# Altium integrated library Linear Technology Power Management uModule Regulators.IntLib: 166 symbols (part 25 of 67)
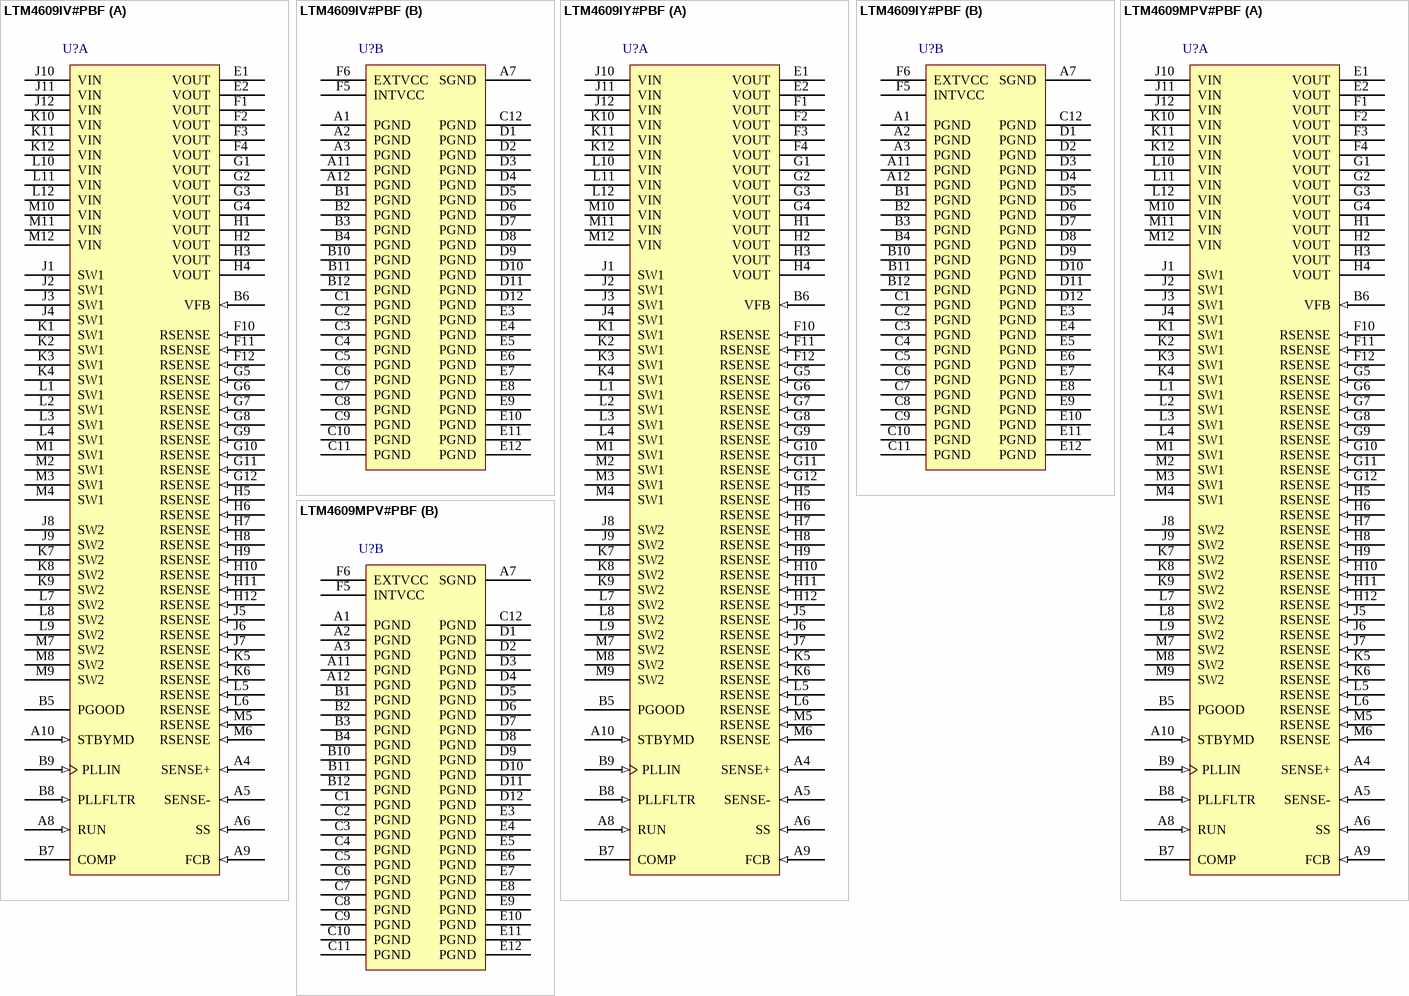
[diagram p51: symbols LTM4609IV#PBF to LTM4609MPV#PBF]

## LTM4609MPV#PBF
designator U?
36 VIN, 34 VOUT High Efficiency Buck-Boost DC/DC uModule Regulator, 141-pin LGA, -55 to 125 degC, Pb-Free, Tray; Manufacturer: Linear Technology; PartNumber: LTM4609MPV#PBF; Extended Temp: E, I, MP; Frequency Sync Range: 200kHz - 400kHz; Frequency(kHz): 300; Ishutdown(uA): 35; Isupply(mA): 2.8; Number of Outputs: 1; Output Current(A): 4; Synchronous: yes; Tracking: no; Vin Max(V): 36; Vin Min(V): 4.5; Vout Max(V): 34; Vout Min(V): 0.8; DatasheetVersion: Rev. D; PackageVersion: Rev. B, 02/2013; PackageReference: LGA-141; PackageDescription: 141-Pin LGA, Body 15 x 15 mm, Pitch 1.27 mm; Supplier 1: Digi-Key; Supplier Part Number 1: LTM4609MPV#PBF-ND; Supplier 2: Farnell; Supplier Part Number 2: 1847465; Supplier 3: Farnell; Supplier Part Number 3: 1838293; Supplier 4: Newark; Supplier Part Number 4: 84R5008; Packing: Tray; RoHS: TRUE; Topology: Buck-Boost; Mounting Technology: Surface Mount; Code_JEDEC: MS-028; ComponentLink1Description: Manufacturer URL; ComponentLink1URL: http://www.linear.com/; ComponentLink2Description: Datasheet; ComponentLink2URL: http://cds.linear.com/docs/en/datasheet/4609fd.pdf; ComponentLink3Description: Package Specification; ComponentLink3URL: http://cds.linear.com/docs/en/packaging/05081840_B_lga141.pdf
footprint LT-LGA-141-05-08-1840_V (LGA, 141-Leads, Body 15x15mm, Pitch 1.27mm)
part A pins: A4 SENSE+ (in) "Positive Input to the Current Sense and Reverse Current Detect Comparators.", A5 SENSE- (in) "Negative Input to the Current Sense and Reverse Current Detect Comparators.", A6 SS (in) "Soft-Start Pin. Soft-start reduces the input surge current from the power source by gradually increasing the controller’s current limit.", A8 RUN (in) "Run Control Pin. A voltage below 1.6V will turn off the module. There is a 100k resistor between the RUN pin and SGND in the module. Do not apply more than 6V to this pin. See the Applications Information section.", A9 FCB (in) "Forced Continuous Control Input. The voltage applied to this pin sets the operating mode of the module. When the applied voltage is less than 0.8V, the forced continuous current mode is active in boost operation and the skip (See Datasheet)", A10 STBYMD (in) "LDO Control Pin. Determines whether the internal LDO remains active when the controller is shut down. See Operations section for details. If the STBYMD pin is pulled to ground, the SS pin is internally pulled to ground to (See Datasheet)", B5 PGOOD (oc) "Output Voltage Power Good Indicator. Open drain logic output that is pulled to ground when the output voltage is not within +/-7.5% of the regulation point.", B6 VFB (in) "The Negative Input of the Error Amplifier. Internally, this pin is connected to VOUT with a 100k precision resistor. Different output voltages can be programmed with an additional resistor between VFB and SGND pins. See the (See Datasheet)", B7 COMP "Current Control Threshold and Error Amplifier Compensation Point. The current comparator threshold increases with this control voltage. The voltage ranges from 0V to 2.4V.", B8 PLLFLTR (in) "The lowpass filter of the phase-locked loop is tied to this pin. This pin can also be used to set the frequency of the internal oscillator with an AC or DC voltage. See the Applications Information section for details.", B9 PLLIN (in) "External Clock Synchronization Input to the Phase Detector. This pin is internally terminated to SGND with a 50k resistor. The phase-locked loop will force the rising bottom gate signal of the controller to be synchronized (See Datasheet)", E1 VOUT (power) "Power Output Pins. Apply output load between these pins and PGND pins. Recommend placing output decoupling capacitance directly between these pins and PGND pins.", E2 VOUT (power) "Power Output Pins. Apply output load between these pins and PGND pins. Recommend placing output decoupling capacitance directly between these pins and PGND pins.", F1 VOUT (power) "Power Output Pins. Apply output load between these pins and PGND pins. Recommend placing output decoupling capacitance directly between these pins and PGND pins.", F2 VOUT (power) "Power Output Pins. Apply output load between these pins and PGND pins. Recommend placing output decoupling capacitance directly between these pins and PGND pins.", F3 VOUT (power) "Power Output Pins. Apply output load between these pins and PGND pins. Recommend placing output decoupling capacitance directly between these pins and PGND pins.", F4 VOUT (power) "Power Output Pins. Apply output load between these pins and PGND pins. Recommend placing output decoupling capacitance directly between these pins and PGND pins.", F10 RSENSE (in) "Sensing Resistor Pin. The sensing resistor is connected from this pin to PGND.", F11 RSENSE (in) "Sensing Resistor Pin. The sensing resistor is connected from this pin to PGND.", F12 RSENSE (in) "Sensing Resistor Pin. The sensing resistor is connected from this pin to PGND.", G1 VOUT (power) "Power Output Pins. Apply output load between these pins and PGND pins. Recommend placing output decoupling capacitance directly between these pins and PGND pins.", G2 VOUT (power) "Power Output Pins. Apply output load between these pins and PGND pins. Recommend placing output decoupling capacitance directly between these pins and PGND pins.", G3 VOUT (power) "Power Output Pins. Apply output load between these pins and PGND pins. Recommend placing output decoupling capacitance directly between these pins and PGND pins.", G4 VOUT (power) "Power Output Pins. Apply output load between these pins and PGND pins. Recommend placing output decoupling capacitance directly between these pins and PGND pins.", G5 RSENSE (in) "Sensing Resistor Pin. The sensing resistor is connected from this pin to PGND.", G6 RSENSE (in) "Sensing Resistor Pin. The sensing resistor is connected from this pin to PGND.", G7 RSENSE (in) "Sensing Resistor Pin. The sensing resistor is connected from this pin to PGND.", G8 RSENSE (in) "Sensing Resistor Pin. The sensing resistor is connected from this pin to PGND.", G9 RSENSE (in) "Sensing Resistor Pin. The sensing resistor is connected from this pin to PGND.", G10 RSENSE (in) "Sensing Resistor Pin. The sensing resistor is connected from this pin to PGND.", G11 RSENSE (in) "Sensing Resistor Pin. The sensing resistor is connected from this pin to PGND.", G12 RSENSE (in) "Sensing Resistor Pin. The sensing resistor is connected from this pin to PGND.", H1 VOUT (power) "Power Output Pins. Apply output load between these pins and PGND pins. Recommend placing output decoupling capacitance directly between these pins and PGND pins.", H2 VOUT (power) "Power Output Pins. Apply output load between these pins and PGND pins. Recommend placing output decoupling capacitance directly between these pins and PGND pins.", H3 VOUT (power) "Power Output Pins. Apply output load between these pins and PGND pins. Recommend placing output decoupling capacitance directly between these pins and PGND pins.", H4 VOUT (power) "Power Output Pins. Apply output load between these pins and PGND pins. Recommend placing output decoupling capacitance directly between these pins and PGND pins.", H5 RSENSE (in) "Sensing Resistor Pin. The sensing resistor is connected from this pin to PGND.", H6 RSENSE (in) "Sensing Resistor Pin. The sensing resistor is connected from this pin to PGND.", H7 RSENSE (in) "Sensing Resistor Pin. The sensing resistor is connected from this pin to PGND.", H8 RSENSE (in) "Sensing Resistor Pin. The sensing resistor is connected from this pin to PGND.", H9 RSENSE (in) "Sensing Resistor Pin. The sensing resistor is connected from this pin to PGND.", H10 RSENSE (in) "Sensing Resistor Pin. The sensing resistor is connected from this pin to PGND.", H11 RSENSE (in) "Sensing Resistor Pin. The sensing resistor is connected from this pin to PGND.", H12 RSENSE (in) "Sensing Resistor Pin. The sensing resistor is connected from this pin to PGND.", J1 SW1 "Switch Nodes. The power inductor is connected between SW1 and SW2.", J2 SW1 "Switch Nodes. The power inductor is connected between SW1 and SW2.", J3 SW1 "Switch Nodes. The power inductor is connected between SW1 and SW2.", J4 SW1 "Switch Nodes. The power inductor is connected between SW1 and SW2.", J5 RSENSE (in) "Sensing Resistor Pin. The sensing resistor is connected from this pin to PGND.", J6 RSENSE (in) "Sensing Resistor Pin. The sensing resistor is connected from this pin to PGND.", J7 RSENSE (in) "Sensing Resistor Pin. The sensing resistor is connected from this pin to PGND.", J8 SW2 "Switch Nodes. The power inductor is connected between SW1 and SW2.", J9 SW2 "Switch Nodes. The power inductor is connected between SW1 and SW2.", J10 VIN (power) "Power Input Pins. Apply input voltage between these pins and PGND pins. Recommend placing input decoupling capacitance directly between VIN pins and PGND pins.", J11 VIN (power) "Power Input Pins. Apply input voltage between these pins and PGND pins. Recommend placing input decoupling capacitance directly between VIN pins and PGND pins.", J12 VIN (power) "Power Input Pins. Apply input voltage between these pins and PGND pins. Recommend placing input decoupling capacitance directly between VIN pins and PGND pins.", K1 SW1 "Switch Nodes. The power inductor is connected between SW1 and SW2.", K2 SW1 "Switch Nodes. The power inductor is connected between SW1 and SW2.", K3 SW1 "Switch Nodes. The power inductor is connected between SW1 and SW2.", K4 SW1 "Switch Nodes. The power inductor is connected between SW1 and SW2.", K5 RSENSE (in) "Sensing Resistor Pin. The sensing resistor is connected from this pin to PGND.", K6 RSENSE (in) "Sensing Resistor Pin. The sensing resistor is connected from this pin to PGND.", K7 SW2 "Switch Nodes. The power inductor is connected between SW1 and SW2.", K8 SW2 "Switch Nodes. The power inductor is connected between SW1 and SW2.", K9 SW2 "Switch Nodes. The power inductor is connected between SW1 and SW2.", K10 VIN (power) "Power Input Pins. Apply input voltage between these pins and PGND pins. Recommend placing input decoupling capacitance directly between VIN pins and PGND pins.", K11 VIN (power) "Power Input Pins. Apply input voltage between these pins and PGND pins. Recommend placing input decoupling capacitance directly between VIN pins and PGND pins.", K12 VIN (power) "Power Input Pins. Apply input voltage between these pins and PGND pins. Recommend placing input decoupling capacitance directly between VIN pins and PGND pins.", L1 SW1 "Switch Nodes. The power inductor is connected between SW1 and SW2.", L2 SW1 "Switch Nodes. The power inductor is connected between SW1 and SW2.", L3 SW1 "Switch Nodes. The power inductor is connected between SW1 and SW2.", L4 SW1 "Switch Nodes. The power inductor is connected between SW1 and SW2.", L5 RSENSE (in) "Sensing Resistor Pin. The sensing resistor is connected from this pin to PGND.", L6 RSENSE (in) "Sensing Resistor Pin. The sensing resistor is connected from this pin to PGND.", L7 SW2 "Switch Nodes. The power inductor is connected between SW1 and SW2.", L8 SW2 "Switch Nodes. The power inductor is connected between SW1 and SW2.", L9 SW2 "Switch Nodes. The power inductor is connected between SW1 and SW2.", L10 VIN (power) "Power Input Pins. Apply input voltage between these pins and PGND pins. Recommend placing input decoupling capacitance directly between VIN pins and PGND pins.", L11 VIN (power) "Power Input Pins. Apply input voltage between these pins and PGND pins. Recommend placing input decoupling capacitance directly between VIN pins and PGND pins.", L12 VIN (power) "Power Input Pins. Apply input voltage between these pins and PGND pins. Recommend placing input decoupling capacitance directly between VIN pins and PGND pins.", M1 SW1 "Switch Nodes. The power inductor is connected between SW1 and SW2.", M2 SW1 "Switch Nodes. The power inductor is connected between SW1 and SW2.", M3 SW1 "Switch Nodes. The power inductor is connected between SW1 and SW2.", M4 SW1 "Switch Nodes. The power inductor is connected between SW1 and SW2.", M5 RSENSE (in) "Sensing Resistor Pin. The sensing resistor is connected from this pin to PGND.", M6 RSENSE (in) "Sensing Resistor Pin. The sensing resistor is connected from this pin to PGND.", M7 SW2 "Switch Nodes. The power inductor is connected between SW1 and SW2.", M8 SW2 "Switch Nodes. The power inductor is connected between SW1 and SW2.", M9 SW2 "Switch Nodes. The power inductor is connected between SW1 and SW2.", M10 VIN (power) "Power Input Pins. Apply input voltage between these pins and PGND pins. Recommend placing input decoupling capacitance directly between VIN pins and PGND pins.", M11 VIN (power) "Power Input Pins. Apply input voltage between these pins and PGND pins. Recommend placing input decoupling capacitance directly between VIN pins and PGND pins.", M12 VIN (power) "Power Input Pins. Apply input voltage between these pins and PGND pins. Recommend placing input decoupling capacitance directly between VIN pins and PGND pins."
part B pins: A1 PGND (power) "Power Ground Pins for Both Input and Output Returns.", A2 PGND (power) "Power Ground Pins for Both Input and Output Returns.", A3 PGND (power) "Power Ground Pins for Both Input and Output Returns.", A7 SGND (power) "Signal Ground Pin. This pin connects to PGND at output capacitor point.", A11 PGND (power) "Power Ground Pins for Both Input and Output Returns.", A12 PGND (power) "Power Ground Pins for Both Input and Output Returns.", B1 PGND (power) "Power Ground Pins for Both Input and Output Returns.", B2 PGND (power) "Power Ground Pins for Both Input and Output Returns.", B3 PGND (power) "Power Ground Pins for Both Input and Output Returns.", B4 PGND (power) "Power Ground Pins for Both Input and Output Returns.", B10 PGND (power) "Power Ground Pins for Both Input and Output Returns.", B11 PGND (power) "Power Ground Pins for Both Input and Output Returns.", B12 PGND (power) "Power Ground Pins for Both Input and Output Returns.", C1 PGND (power) "Power Ground Pins for Both Input and Output Returns.", C2 PGND (power) "Power Ground Pins for Both Input and Output Returns.", C3 PGND (power) "Power Ground Pins for Both Input and Output Returns.", C4 PGND (power) "Power Ground Pins for Both Input and Output Returns.", C5 PGND (power) "Power Ground Pins for Both Input and Output Returns.", C6 PGND (power) "Power Ground Pins for Both Input and Output Returns.", C7 PGND (power) "Power Ground Pins for Both Input and Output Returns.", C8 PGND (power) "Power Ground Pins for Both Input and Output Returns.", C9 PGND (power) "Power Ground Pins for Both Input and Output Returns.", C10 PGND (power) "Power Ground Pins for Both Input and Output Returns.", C11 PGND (power) "Power Ground Pins for Both Input and Output Returns.", C12 PGND (power) "Power Ground Pins for Both Input and Output Returns.", D1 PGND (power) "Power Ground Pins for Both Input and Output Returns.", D2 PGND (power) "Power Ground Pins for Both Input and Output Returns.", D3 PGND (power) "Power Ground Pins for Both Input and Output Returns.", D4 PGND (power) "Power Ground Pins for Both Input and Output Returns.", D5 PGND (power) "Power Ground Pins for Both Input and Output Returns.", D6 PGND (power) "Power Ground Pins for Both Input and Output Returns.", D7 PGND (power) "Power Ground Pins for Both Input and Output Returns.", D8 PGND (power) "Power Ground Pins for Both Input and Output Returns.", D9 PGND (power) "Power Ground Pins for Both Input and Output Returns.", D10 PGND (power) "Power Ground Pins for Both Input and Output Returns.", D11 PGND (power) "Power Ground Pins for Both Input and Output Returns.", D12 PGND (power) "Power Ground Pins for Both Input and Output Returns.", E3 PGND (power) "Power Ground Pins for Both Input and Output Returns.", E4 PGND (power) "Power Ground Pins for Both Input and Output Returns.", E5 PGND (power) "Power Ground Pins for Both Input and Output Returns.", E6 PGND (power) "Power Ground Pins for Both Input and Output Returns.", E7 PGND (power) "Power Ground Pins for Both Input and Output Returns.", E8 PGND (power) "Power Ground Pins for Both Input and Output Returns.", E9 PGND (power) "Power Ground Pins for Both Input and Output Returns.", E10 PGND (power) "Power Ground Pins for Both Input and Output Returns.", E11 PGND (power) "Power Ground Pins for Both Input and Output Returns.", E12 PGND (power) "Power Ground Pins for Both Input and Output Returns.", F5 INTVCC (power) "Internal 6V Regulator Output. This pin is for additional decoupling of the 6V internal regulator. Do not source more than 40mA from INTVCC.", F6 EXTVCC (power) "External VCC Input. When EXTVCC exceeds 5.7V, an internal switch connects this pin to INTVCC and shuts down the internal regulator so that the controller and gate drive power is drawn from EXTVCC. Do not exceed 7V at this (See Datasheet)"

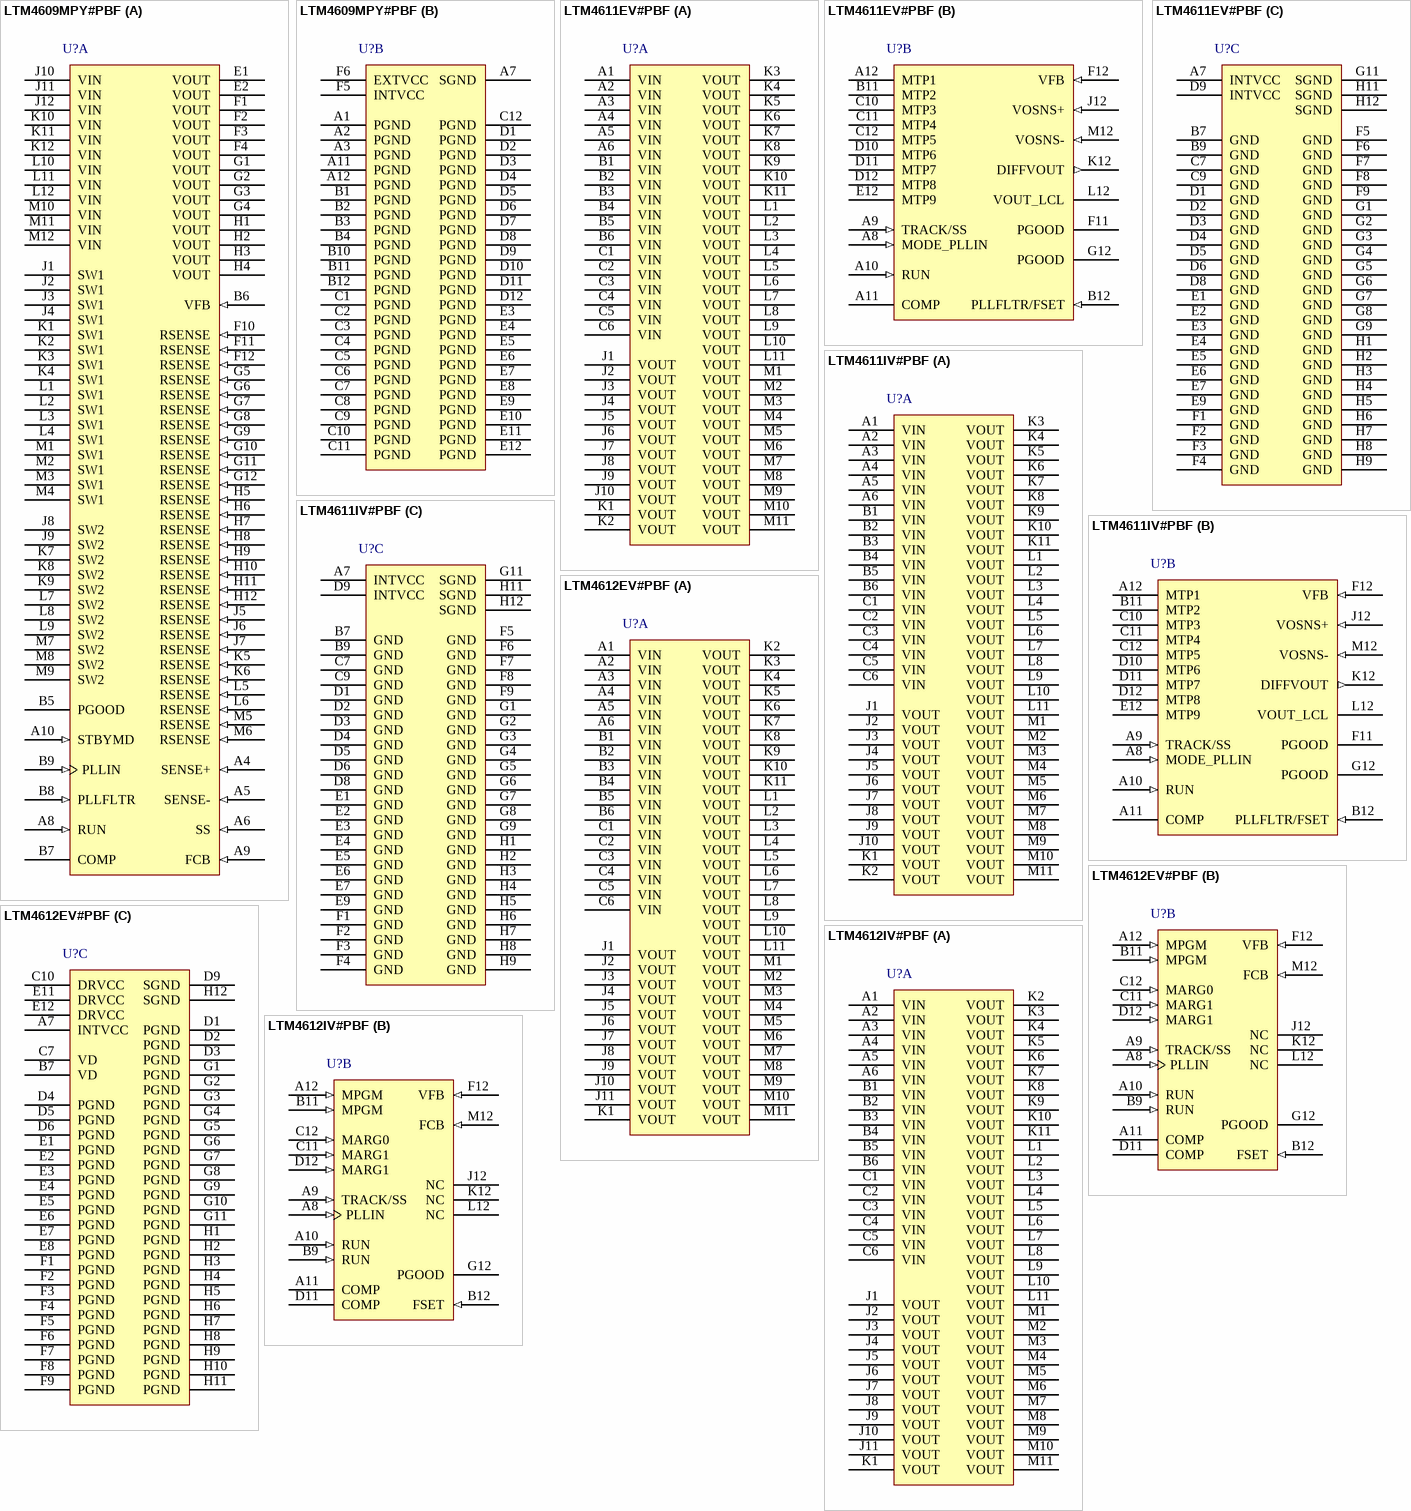
[diagram p11: symbols LTM4609MPY#PBF to LTM4612IV#PBF]

## LTM4609MPY#PBF
designator U?
36 VIN, 34 VOUT High Efficiency Buck-Boost DC/DC uModule Regulator, 141-pin BGA, -55 to 125 degC, Pb-Free, Tray; Manufacturer: Linear Technology; PartNumber: LTM4609MPY#PBF; Extended Temp: E, I, MP; Frequency Sync Range: 200kHz - 400kHz; Frequency(kHz): 300; Ishutdown(uA): 35; Isupply(mA): 2.8; Number of Outputs: 1; Output Current(A): 4; Synchronous: yes; Tracking: no; Vin Max(V): 36; Vin Min(V): 4.5; Vout Max(V): 34; Vout Min(V): 0.8; DatasheetVersion: Rev. D; PackageVersion: Rev. B, 01/2013; PackageReference: BGA-141; PackageDescription: 141-Ball BGA, Body 15 x 15 mm, Pitch 1.27 mm; Supplier 1: Digi-Key; Supplier Part Number 1: LTM4609MPY#PBF-ND; Supplier 2: Newark; Supplier Part Number 2: 55W6746; Packing: Tray; RoHS: TRUE; Topology: Buck-Boost; Mounting Technology: Surface Mount; Code_JEDEC: MS-028; ComponentLink1Description: Manufacturer URL; ComponentLink1URL: http://www.linear.com/; ComponentLink2Description: Datasheet; ComponentLink2URL: http://cds.linear.com/docs/en/datasheet/4609fd.pdf; ComponentLink3Description: Package Specification; ComponentLink3URL: http://cds.linear.com/docs/en/packaging/05081899_B_bga141.pdf
footprint LT-BGA-141-15000X15000X3420 (BGA, 141-Balls, Body 15x15mm, Pitch 1.27mm)
part A pins: A4 SENSE+ (in) "Positive Input to the Current Sense and Reverse Current Detect Comparators.", A5 SENSE- (in) "Negative Input to the Current Sense and Reverse Current Detect Comparators.", A6 SS (in) "Soft-Start Pin. Soft-start reduces the input surge current from the power source by gradually increasing the controller’s current limit.", A8 RUN (in) "Run Control Pin. A voltage below 1.6V will turn off the module. There is a 100k resistor between the RUN pin and SGND in the module. Do not apply more than 6V to this pin. See the Applications Information section.", A9 FCB (in) "Forced Continuous Control Input. The voltage applied to this pin sets the operating mode of the module. When the applied voltage is less than 0.8V, the forced continuous current mode is active in boost operation and the skip (See Datasheet)", A10 STBYMD (in) "LDO Control Pin. Determines whether the internal LDO remains active when the controller is shut down. See Operations section for details. If the STBYMD pin is pulled to ground, the SS pin is internally pulled to ground to (See Datasheet)", B5 PGOOD (oc), B6 VFB (in) "The Negative Input of the Error Amplifier. Internally, this pin is connected to VOUT with a 100k precision resistor. Different output voltages can be programmed with an additional resistor between VFB and SGND pins. See the (See Datasheet)", B7 COMP "Current Control Threshold and Error Amplifier Compensation Point. The current comparator threshold increases with this control voltage. The voltage ranges from 0V to 2.4V.", B8 PLLFLTR (in) "The lowpass filter of the phase-locked loop is tied to this pin. This pin can also be used to set the frequency of the internal oscillator with an AC or DC voltage. See the Applications Information section for details.", B9 PLLIN (in) "External Clock Synchronization Input to the Phase Detector. This pin is internally terminated to SGND with a 50k resistor. The phase-locked loop will force the rising bottom gate signal of the controller to be synchronized (See Datasheet)", E1 VOUT (power) "Power Output Pins. Apply output load between these pins and PGND pins. Recommend placing output decoupling capacitance directly between these pins and PGND pins.", E2 VOUT (power) "Power Output Pins. Apply output load between these pins and PGND pins. Recommend placing output decoupling capacitance directly between these pins and PGND pins.", F1 VOUT (power) "Power Output Pins. Apply output load between these pins and PGND pins. Recommend placing output decoupling capacitance directly between these pins and PGND pins.", F2 VOUT (power) "Power Output Pins. Apply output load between these pins and PGND pins. Recommend placing output decoupling capacitance directly between these pins and PGND pins.", F3 VOUT (power) "Power Output Pins. Apply output load between these pins and PGND pins. Recommend placing output decoupling capacitance directly between these pins and PGND pins.", F4 VOUT (power) "Power Output Pins. Apply output load between these pins and PGND pins. Recommend placing output decoupling capacitance directly between these pins and PGND pins.", F10 RSENSE (in) "Sensing Resistor Pin. The sensing resistor is connected from this pin to PGND.", F11 RSENSE (in) "Sensing Resistor Pin. The sensing resistor is connected from this pin to PGND.", F12 RSENSE (in) "Sensing Resistor Pin. The sensing resistor is connected from this pin to PGND.", G1 VOUT (power) "Power Output Pins. Apply output load between these pins and PGND pins. Recommend placing output decoupling capacitance directly between these pins and PGND pins.", G2 VOUT (power) "Power Output Pins. Apply output load between these pins and PGND pins. Recommend placing output decoupling capacitance directly between these pins and PGND pins.", G3 VOUT (power) "Power Output Pins. Apply output load between these pins and PGND pins. Recommend placing output decoupling capacitance directly between these pins and PGND pins.", G4 VOUT (power) "Power Output Pins. Apply output load between these pins and PGND pins. Recommend placing output decoupling capacitance directly between these pins and PGND pins.", G5 RSENSE (in) "Sensing Resistor Pin. The sensing resistor is connected from this pin to PGND.", G6 RSENSE (in) "Sensing Resistor Pin. The sensing resistor is connected from this pin to PGND.", G7 RSENSE (in) "Sensing Resistor Pin. The sensing resistor is connected from this pin to PGND.", G8 RSENSE (in) "Sensing Resistor Pin. The sensing resistor is connected from this pin to PGND.", G9 RSENSE (in) "Sensing Resistor Pin. The sensing resistor is connected from this pin to PGND.", G10 RSENSE (in) "Sensing Resistor Pin. The sensing resistor is connected from this pin to PGND.", G11 RSENSE (in) "Sensing Resistor Pin. The sensing resistor is connected from this pin to PGND.", G12 RSENSE (in) "Sensing Resistor Pin. The sensing resistor is connected from this pin to PGND.", H1 VOUT (power) "Power Output Pins. Apply output load between these pins and PGND pins. Recommend placing output decoupling capacitance directly between these pins and PGND pins.", H2 VOUT (power) "Power Output Pins. Apply output load between these pins and PGND pins. Recommend placing output decoupling capacitance directly between these pins and PGND pins.", H3 VOUT (power) "Power Output Pins. Apply output load between these pins and PGND pins. Recommend placing output decoupling capacitance directly between these pins and PGND pins.", H4 VOUT (power) "Power Output Pins. Apply output load between these pins and PGND pins. Recommend placing output decoupling capacitance directly between these pins and PGND pins.", H5 RSENSE (in) "Sensing Resistor Pin. The sensing resistor is connected from this pin to PGND.", H6 RSENSE (in) "Sensing Resistor Pin. The sensing resistor is connected from this pin to PGND.", H7 RSENSE (in) "Sensing Resistor Pin. The sensing resistor is connected from this pin to PGND.", H8 RSENSE (in) "Sensing Resistor Pin. The sensing resistor is connected from this pin to PGND.", H9 RSENSE (in) "Sensing Resistor Pin. The sensing resistor is connected from this pin to PGND.", H10 RSENSE (in) "Sensing Resistor Pin. The sensing resistor is connected from this pin to PGND.", H11 RSENSE (in) "Sensing Resistor Pin. The sensing resistor is connected from this pin to PGND.", H12 RSENSE (in) "Sensing Resistor Pin. The sensing resistor is connected from this pin to PGND.", J1 SW1 "Switch Nodes. The power inductor is connected between SW1 and SW2.", J2 SW1 "Switch Nodes. The power inductor is connected between SW1 and SW2.", J3 SW1 "Switch Nodes. The power inductor is connected between SW1 and SW2.", J4 SW1 "Switch Nodes. The power inductor is connected between SW1 and SW2.", J5 RSENSE (in) "Sensing Resistor Pin. The sensing resistor is connected from this pin to PGND.", J6 RSENSE (in) "Sensing Resistor Pin. The sensing resistor is connected from this pin to PGND.", J7 RSENSE (in) "Sensing Resistor Pin. The sensing resistor is connected from this pin to PGND.", J8 SW2 "Switch Nodes. The power inductor is connected between SW1 and SW2.", J9 SW2 "Switch Nodes. The power inductor is connected between SW1 and SW2.", J10 VIN (power) "Power Input Pins. Apply input voltage between these pins and PGND pins. Recommend placing input decoupling capacitance directly between VIN pins and PGND pins.", J11 VIN (power) "Power Input Pins. Apply input voltage between these pins and PGND pins. Recommend placing input decoupling capacitance directly between VIN pins and PGND pins.", J12 VIN (power) "Power Input Pins. Apply input voltage between these pins and PGND pins. Recommend placing input decoupling capacitance directly between VIN pins and PGND pins.", K1 SW1 "Switch Nodes. The power inductor is connected between SW1 and SW2.", K2 SW1 "Switch Nodes. The power inductor is connected between SW1 and SW2.", K3 SW1 "Switch Nodes. The power inductor is connected between SW1 and SW2.", K4 SW1 "Switch Nodes. The power inductor is connected between SW1 and SW2.", K5 RSENSE (in) "Sensing Resistor Pin. The sensing resistor is connected from this pin to PGND.", K6 RSENSE (in) "Sensing Resistor Pin. The sensing resistor is connected from this pin to PGND.", K7 SW2 "Switch Nodes. The power inductor is connected between SW1 and SW2.", K8 SW2 "Switch Nodes. The power inductor is connected between SW1 and SW2.", K9 SW2 "Switch Nodes. The power inductor is connected between SW1 and SW2.", K10 VIN (power) "Power Input Pins. Apply input voltage between these pins and PGND pins. Recommend placing input decoupling capacitance directly between VIN pins and PGND pins.", K11 VIN (power) "Power Input Pins. Apply input voltage between these pins and PGND pins. Recommend placing input decoupling capacitance directly between VIN pins and PGND pins.", K12 VIN (power) "Power Input Pins. Apply input voltage between these pins and PGND pins. Recommend placing input decoupling capacitance directly between VIN pins and PGND pins.", L1 SW1 "Switch Nodes. The power inductor is connected between SW1 and SW2.", L2 SW1 "Switch Nodes. The power inductor is connected between SW1 and SW2.", L3 SW1 "Switch Nodes. The power inductor is connected between SW1 and SW2.", L4 SW1 "Switch Nodes. The power inductor is connected between SW1 and SW2.", L5 RSENSE (in) "Sensing Resistor Pin. The sensing resistor is connected from this pin to PGND.", L6 RSENSE (in) "Sensing Resistor Pin. The sensing resistor is connected from this pin to PGND.", L7 SW2 "Switch Nodes. The power inductor is connected between SW1 and SW2.", L8 SW2 "Switch Nodes. The power inductor is connected between SW1 and SW2.", L9 SW2 "Switch Nodes. The power inductor is connected between SW1 and SW2.", L10 VIN (power) "Power Input Pins. Apply input voltage between these pins and PGND pins. Recommend placing input decoupling capacitance directly between VIN pins and PGND pins.", L11 VIN (power) "Power Input Pins. Apply input voltage between these pins and PGND pins. Recommend placing input decoupling capacitance directly between VIN pins and PGND pins.", L12 VIN (power) "Power Input Pins. Apply input voltage between these pins and PGND pins. Recommend placing input decoupling capacitance directly between VIN pins and PGND pins.", M1 SW1 "Switch Nodes. The power inductor is connected between SW1 and SW2.", M2 SW1 "Switch Nodes. The power inductor is connected between SW1 and SW2.", M3 SW1 "Switch Nodes. The power inductor is connected between SW1 and SW2.", M4 SW1 "Switch Nodes. The power inductor is connected between SW1 and SW2.", M5 RSENSE (in) "Sensing Resistor Pin. The sensing resistor is connected from this pin to PGND.", M6 RSENSE (in) "Sensing Resistor Pin. The sensing resistor is connected from this pin to PGND.", M7 SW2 "Switch Nodes. The power inductor is connected between SW1 and SW2.", M8 SW2 "Switch Nodes. The power inductor is connected between SW1 and SW2.", M9 SW2 "Switch Nodes. The power inductor is connected between SW1 and SW2.", M10 VIN (power) "Power Input Pins. Apply input voltage between these pins and PGND pins. Recommend placing input decoupling capacitance directly between VIN pins and PGND pins.", M11 VIN (power) "Power Input Pins. Apply input voltage between these pins and PGND pins. Recommend placing input decoupling capacitance directly between VIN pins and PGND pins.", M12 VIN (power) "Power Input Pins. Apply input voltage between these pins and PGND pins. Recommend placing input decoupling capacitance directly between VIN pins and PGND pins."
part B pins: A1 PGND (power) "Power Ground Pins for Both Input and Output Returns.", A2 PGND (power) "Power Ground Pins for Both Input and Output Returns.", A3 PGND (power) "Power Ground Pins for Both Input and Output Returns.", A7 SGND (power) "Signal Ground Pin. This pin connects to PGND at output capacitor point.", A11 PGND (power) "Power Ground Pins for Both Input and Output Returns.", A12 PGND (power) "Power Ground Pins for Both Input and Output Returns.", B1 PGND (power) "Power Ground Pins for Both Input and Output Returns.", B2 PGND (power) "Power Ground Pins for Both Input and Output Returns.", B3 PGND (power) "Power Ground Pins for Both Input and Output Returns.", B4 PGND (power) "Power Ground Pins for Both Input and Output Returns.", B10 PGND (power) "Power Ground Pins for Both Input and Output Returns.", B11 PGND (power) "Power Ground Pins for Both Input and Output Returns.", B12 PGND (power) "Power Ground Pins for Both Input and Output Returns.", C1 PGND (power) "Power Ground Pins for Both Input and Output Returns.", C2 PGND (power) "Power Ground Pins for Both Input and Output Returns.", C3 PGND (power) "Power Ground Pins for Both Input and Output Returns.", C4 PGND (power) "Power Ground Pins for Both Input and Output Returns.", C5 PGND (power) "Power Ground Pins for Both Input and Output Returns.", C6 PGND (power) "Power Ground Pins for Both Input and Output Returns.", C7 PGND (power) "Power Ground Pins for Both Input and Output Returns.", C8 PGND (power) "Power Ground Pins for Both Input and Output Returns.", C9 PGND (power) "Power Ground Pins for Both Input and Output Returns.", C10 PGND (power) "Power Ground Pins for Both Input and Output Returns.", C11 PGND (power) "Power Ground Pins for Both Input and Output Returns.", C12 PGND (power) "Power Ground Pins for Both Input and Output Returns.", D1 PGND (power) "Power Ground Pins for Both Input and Output Returns.", D2 PGND (power) "Power Ground Pins for Both Input and Output Returns.", D3 PGND (power) "Power Ground Pins for Both Input and Output Returns.", D4 PGND (power) "Power Ground Pins for Both Input and Output Returns.", D5 PGND (power) "Power Ground Pins for Both Input and Output Returns.", D6 PGND (power) "Power Ground Pins for Both Input and Output Returns.", D7 PGND (power) "Power Ground Pins for Both Input and Output Returns.", D8 PGND (power) "Power Ground Pins for Both Input and Output Returns.", D9 PGND (power) "Power Ground Pins for Both Input and Output Returns.", D10 PGND (power) "Power Ground Pins for Both Input and Output Returns.", D11 PGND (power) "Power Ground Pins for Both Input and Output Returns.", D12 PGND (power) "Power Ground Pins for Both Input and Output Returns.", E3 PGND (power) "Power Ground Pins for Both Input and Output Returns.", E4 PGND (power) "Power Ground Pins for Both Input and Output Returns.", E5 PGND (power) "Power Ground Pins for Both Input and Output Returns.", E6 PGND (power) "Power Ground Pins for Both Input and Output Returns.", E7 PGND (power) "Power Ground Pins for Both Input and Output Returns.", E8 PGND (power) "Power Ground Pins for Both Input and Output Returns.", E9 PGND (power) "Power Ground Pins for Both Input and Output Returns.", E10 PGND (power) "Power Ground Pins for Both Input and Output Returns.", E11 PGND (power) "Power Ground Pins for Both Input and Output Returns.", E12 PGND (power) "Power Ground Pins for Both Input and Output Returns.", F5 INTVCC (power), F6 EXTVCC (power) "External VCC Input. When EXTVCC exceeds 5.7V, an internal switch connects this pin to INTVCC and shuts down the internal regulator so that the controller and gate drive power is drawn from EXTVCC. Do not exceed 7V at this (See Datasheet)"